# EAGLE library part TSW-111-02-S-Q (library con-samtec)
THROUGH-HOLE .025" SQ POST HEADER Source: Samtec TSW.pdf
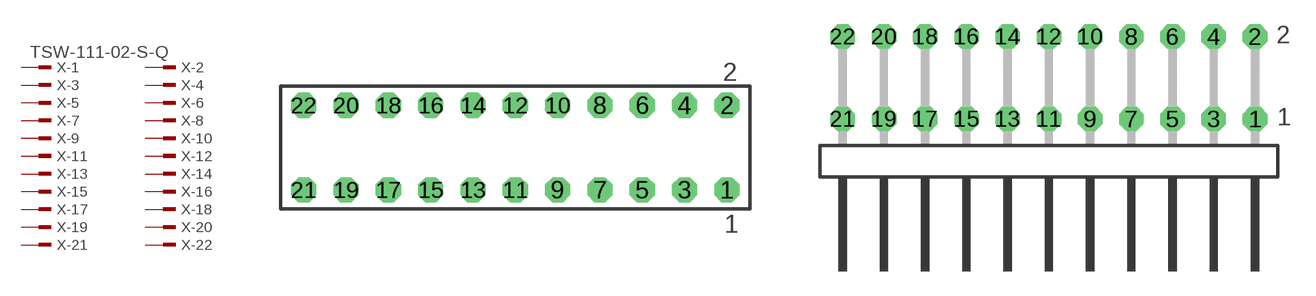
[diagram p279: symbol with the pads of TSW-111-02-S-Q; footprints TSW-111-02-S-Q, TSW-111-02-S-Q-RA]

Designator prefix X; gates -1=MPINV -2=MPIN -3=MPIN -4=MPIN -5=MPIN -6=MPIN -7=MPIN -8=MPIN -9=MPIN -10=MPIN -11=MPIN -12=MPIN -13=MPIN -14=MPIN -15=MPIN -16=MPIN -17=MPIN -18=MPIN -19=MPIN -20=MPIN -21=MPIN -22=MPIN

## TSW-111-02-S-Q  [TSW-111-02-S-Q]
1  -1:1  pas
2  -2:1  pas
3  -3:1  pas
4  -4:1  pas
5  -5:1  pas
6  -6:1  pas
7  -7:1  pas
8  -8:1  pas
9  -9:1  pas
10  -10:1  pas
11  -11:1  pas
12  -12:1  pas
13  -13:1  pas
14  -14:1  pas
15  -15:1  pas
16  -16:1  pas
17  -17:1  pas
18  -18:1  pas
19  -19:1  pas
20  -20:1  pas
21  -21:1  pas
22  -22:1  pas

## TSW-111-02-S-Q-RA  [TSW-111-02-S-Q-RA]
Pads as for TSW-111-02-S-Q

## Footprint TSW-111-02-S-Q (pad centres in mm)
THROUGH-HOLE .025" SQ POST HEADER Source: Samtec TSW.pdf
drill 1 pad 1.5 octagon: 1 12.7,-2.54; 2 12.7,2.54; 3 10.16,-2.54; 4 10.16,2.54; 5 7.62,-2.54; 6 7.62,2.54; 7 5.08,-2.54; 8 5.08,2.54; 9 2.54,-2.54; 10 2.54,2.54; 11 0,-2.54; 12 0,2.54; 13 -2.54,-2.54; 14 -2.54,2.54; 15 -5.08,-2.54; 16 -5.08,2.54; 17 -7.62,-2.54; 18 -7.62,2.54; 19 -10.16,-2.54; 20 -10.16,2.54; 21 -12.7,-2.54; 22 -12.7,2.54

## Footprint TSW-111-02-S-Q-RA (pad centres in mm)
THROUGH-HOLE .025" SQ POST HEADER Source: Samtec TSW.pdf
drill 1 pad 1.5 octagon: 1 12.7,1.524; 2 12.7,6.604; 3 10.16,1.524; 4 10.16,6.604; 5 7.62,1.524; 6 7.62,6.604; 7 5.08,1.524; 8 5.08,6.604; 9 2.54,1.524; 10 2.54,6.604; 11 0,1.524; 12 0,6.604; 13 -2.54,1.524; 14 -2.54,6.604; 15 -5.08,1.524; 16 -5.08,6.604; 17 -7.62,1.524; 18 -7.62,6.604; 19 -10.16,1.524; 20 -10.16,6.604; 21 -12.7,1.524; 22 -12.7,6.604